# Altium footprint library 53398-0871.PcbLib: 1 footprints
Each footprint in its own frame and in the unit in brackets; x right, y up, seen from the top. Pads: shape width x height; smd on the part's side, far side on the other; paste and mask are expansions set on the pad; w line width, h text height; cw(c..) or ccw(c..) is an arc to the next point about the centre after c.
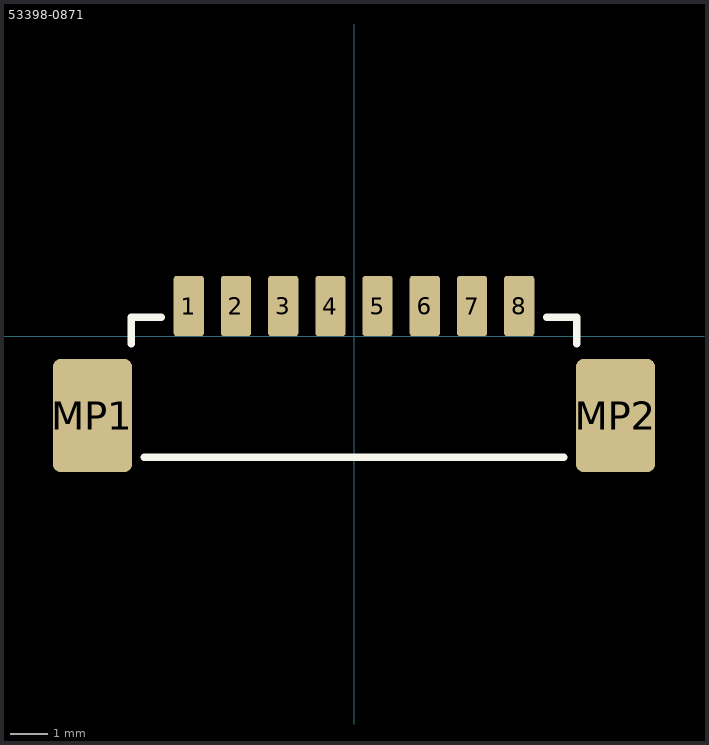
[diagram p0: the footprint, top view; thin cyan lines are the x and y axes]

## 53398-0871 [mm]
height 11
pads (10):
  rrect20% 0.8x1.6 smd: 1(-4.375,0.8) 2(-3.125,0.8) 3(-1.875,0.8) 4(-0.625,0.8) 5(0.625,0.8) 6(1.875,0.8) 7(3.125,0.8) 8(4.375,0.8)
  rrect20% 2.1x3 smd: MP1(-6.925,-2.1) MP2(6.925,-2.1)
Top Overlay:
  lines w0.2: -5.9,-0.2 -5.9,0.5 -5.1,0.5 ; -5.55,-3.2 5.55,-3.2 ; 5.1,0.5 5.9,0.5 ; 5.9,-0.2 5.9,0.5 ; 5.9,0.5 5.9,0.5
3D body "User Library-molex 53398-08.step": height 4.7, standoff 0, extent -7.575,-3.2 7.575,1
3D body "User Library-51021-0800.step": height 5.8, standoff 1.9, extent -5.875,-3.225 5.875,-0.025